# EAGLE library part GF-126-0159 (library radu-collected)
CW Industries GF-126-0159 DPDT slide switch
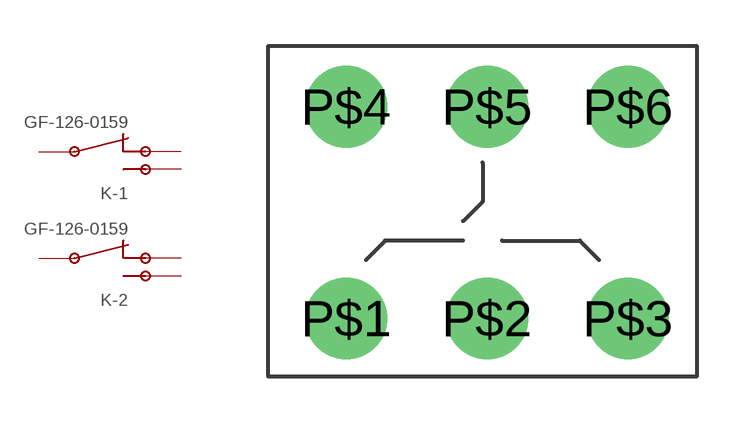
[diagram p6: symbol with the pads of GF-126-0159; footprint GF-126-0159]

Designator prefix K; gates -1=_GENERIC_SPDTSWITCH -2=_GENERIC_SPDTSWITCH

## GF-126-0159  [GF-126-0159]
P$1  -1:NC  pas
P$2  -1:CO  pas
P$3  -1:NO  pas
P$4  -2:NC  pas
P$5  -2:CO  pas
P$6  -2:NO  pas

## Footprint GF-126-0159 (pad centres in mm)
CW Industries GF-126-0159 DPDT slide switch in ON-ON configuration.
drill 1.778: P$1 0,0; P$2 4.597,0; P$3 9.195,0; P$4 0,6.909; P$5 4.597,6.909; P$6 9.195,6.909